# EAGLE library part CD4066 (library audioint)
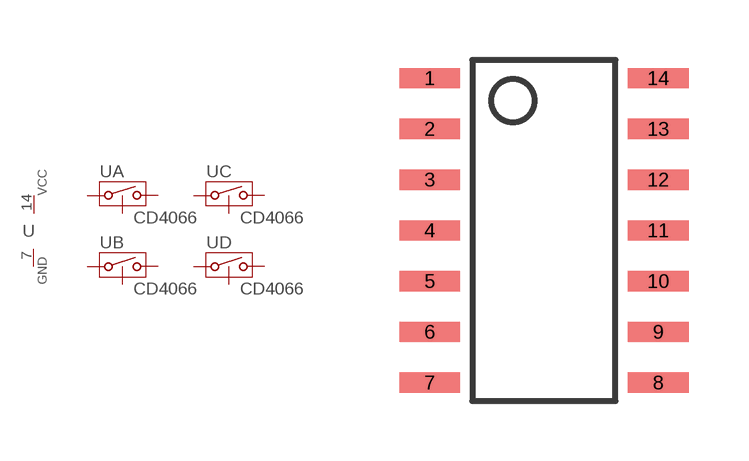
[diagram p29: symbol with the pads of 14-SOIC; footprint 14-SOIC]

Designator prefix U; gates A=SWITCH/CTL B=SWITCH/CTL C=SWITCH/CTL D=SWITCH/CTL G$1=PWR-GND

## CD4066SOIC  [14-SOIC]
1  A:P$1
2  A:P$2
3  B:P$1
4  B:P$2
5  B:P$3
6  C:P$3
7  G$1:GND  pwr
8  C:P$1
9  C:P$2
10  D:P$1
11  D:P$2
12  D:P$3
13  A:P$3
14  G$1:VCC  pwr

## Footprint 14-SOIC (pad centres in mm)
smd 1.524 x 0.508: 1 -2.857,3.81; 2 -2.857,2.54; 3 -2.857,1.27; 4 -2.857,0; 5 -2.857,-1.27; 6 -2.857,-2.54; 7 -2.857,-3.81; 8 2.857,-3.81; 9 2.857,-2.54; 10 2.857,-1.27; 11 2.857,0; 12 2.857,1.27; 13 2.857,2.54; 14 2.857,3.81